# Altium schematic symbol library 1N4148WQ-7-F.SchLib: 1 symbol
Pins are listed as number, name and electrical type; pins without a type are passive.

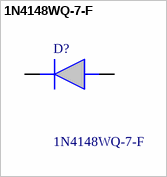
[diagram p0: symbol 1N4148WQ-7-F]

## 1N4148WQ-7-F
designator D?
Diodes - General Purpose, Power, Switching SMT Fast Switching Diode; Manufacturer_Name: Diodes Incorporated; Geometry.Height: 1.45mm; Mouser Part Number: 621-1N4148WQ-7-F; Mouser Price/Stock: https://www.mouser.co.uk/ProductDetail/Diodes-Incorporated/1N4148WQ-7-F?qs=bLNvM6dkO6S%252BGP5yQcUTEQ%3D%3D; Manufacturer_Part_Number: 1N4148WQ-7-F; Datasheet Link: https://www.diodes.com/assets/Datasheets/BAV16W_1N4148W.pdf
footprint SOD3716X145N
pins: 1 K, 2 A